# Altium footprint library Connectors.PcbLib: 62 footprints (part 1 of 4)
Each footprint in its own frame and in the unit in brackets; x right, y up, seen from the top. Pads: shape width x height; smd on the part's side, far side on the other; paste and mask are expansions set on the pad; w line width, h text height; cw(c..) or ccw(c..) is an arc to the next point about the centre after c.
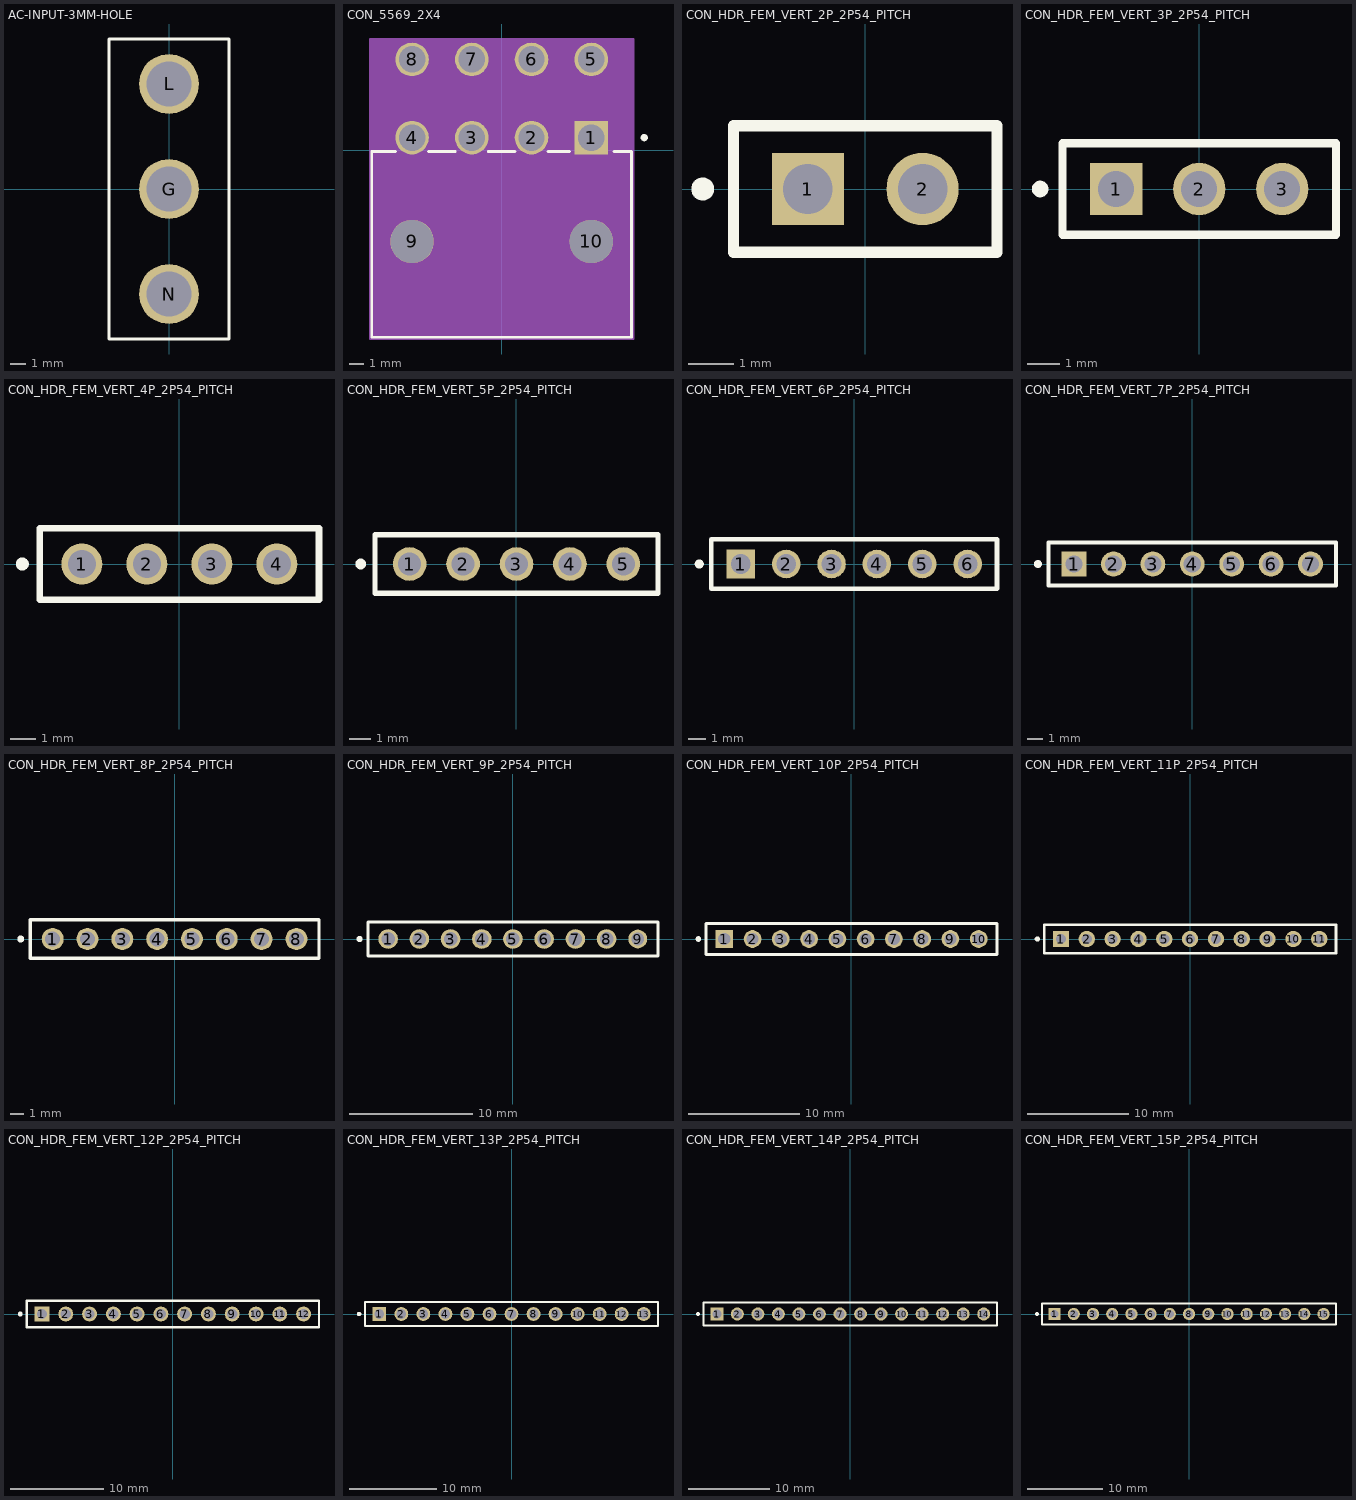
[diagram p0: the footprints below, top view; thin cyan lines are the x and y axes]

## AC-INPUT-3MM-HOLE [mm]
pads (3):
  round 4 hole 3: G(0,0) L(0,7) N(0,-7)
Top Overlay:
  lines w0.2: -4,-10 4,-10 4,10 -4,10 -4,-10
3D body "NADA.STEP": height 0.01, standoff 0, extent -0.005,-0.005 0.005,0.005

## CON_5569_2X4 [mil]
pads (10):
  rect 93x93 hole 73 paste-99999: 1(248.03,35.43)
  round 93 hole 73 paste-99999: 2(82.68,35.43) 3(-82.68,35.43) 4(-248.03,35.43) 5(248.03,251.97) 6(82.68,251.97) 7(-82.68,251.97) 8(-248.03,251.97)
  round 120 / inner round 60 / far side round 120 hole 120 unplated paste-99999 mask+0: 9(-248.03,-251.97) 10(248.03,-251.97)
Top Overlay:
  circle w10: c394.5,35.43 r5
  lines w7.87: -293.69,-2.87 -359.5,-2.87 -359.5,-516.87 359.5,-516.87 359.5,-2.87 311.02,-2.87 ; -202.37,-2.87 -128.34,-2.87 ; -37.02,-2.87 37.02,-2.87 ; 128.34,-2.87 187.39,-2.87
Mechanical 13:
  circle w20: c248.03,35.43 r15
  lines w1: -354.5,-511.87 354.5,-511.87 354.5,-7.87 -354.5,-7.87 -354.5,-511.87
  text "RefDes2" at -87.5,118.7 h50
Mechanical 15:
  region: 364.5,308.47 -364.5,308.47 -364.5,-521.87 364.5,-521.87
  lines w6: -364.5,-521.87 -364.5,308.47 364.5,308.47 364.5,-521.87 -364.5,-521.87
3D body "039301080.stp": height 448.82, standoff -141.73, extent -354.33,-511.81 369.96,273.03

## CON_HDR_FEM_VERT_2P_2P54_PITCH [mm]
pads (2):
  rect 1.6x1.6 hole 1.1: 1(-1.27,0)
  round 1.6 hole 1.1: 2(1.27,0)
Top Overlay:
  circle w0.254: c-3.598,0 r0.127
  lines w0.254: -2.917,-1.397 -2.917,1.397 2.917,1.397 2.917,-1.397 -2.917,-1.397
3D body "2-Pin Header - Female - 2.54mm.step": height 5, standoff -3, extent -2.79,-1.25 2.79,1.25

## CON_HDR_FEM_VERT_3P_2P54_PITCH [mm]
pads (3):
  rect 1.6x1.6 hole 1.1: 1(-2.54,0)
  round 1.6 hole 1.1: 2(0,0) 3(2.54,0)
Top Overlay:
  circle w0.254: c-4.868,0 r0.127
  lines w0.254: -4.187,-1.397 -4.187,1.397 4.187,1.397 4.187,-1.397 -4.187,-1.397
3D body "3-Pin Header - Female - 2.54mm.step": height 5, standoff -3, extent -4.06,-1.25 4.06,1.25

## CON_HDR_FEM_VERT_4P_2P54_PITCH [mm]
pads (4):
  round 1.6 hole 1.1: 1(-3.81,0) 2(-1.27,0) 3(1.27,0) 4(3.81,0)
Top Overlay:
  circle w0.254: c-6.138,0 r0.127
  lines w0.254: -5.457,-1.397 5.457,-1.397 5.457,1.397 -5.457,1.397 -5.457,-1.397
3D body "4-Pin Header - Female - 2.54mm.step": height 5, standoff -3, extent -5.33,-1.25 5.33,1.25

## CON_HDR_FEM_VERT_5P_2P54_PITCH [mm]
pads (5):
  round 1.6 hole 1.1: 1(-5.08,0) 2(-2.54,0) 3(0,0) 4(2.54,0) 5(5.08,0)
Top Overlay:
  circle w0.254: c-7.408,0 r0.127
  lines w0.254: -6.727,-1.397 -6.727,1.397 6.727,1.397 6.727,-1.397 -6.727,-1.397
3D body "5-Pin Header - Female - 2.54mm.step": height 5, standoff -3, extent -6.6,-1.25 6.6,1.25

## CON_HDR_FEM_VERT_6P_2P54_PITCH [mm]
pads (6):
  rect 1.6x1.6 hole 1.1: 1(-6.35,0)
  round 1.6 hole 1.1: 2(-3.81,0) 3(-1.27,0) 4(1.27,0) 5(3.81,0) 6(6.35,0)
Top Overlay:
  circle w0.254: c-8.678,0 r0.127
  lines w0.254: -7.997,-1.397 -7.997,1.397 7.997,1.397 7.997,-1.397 -7.997,-1.397
3D body "6-Pin Header - Female - 2.54mm.step": height 5, standoff -3, extent -7.87,-1.25 7.87,1.25

## CON_HDR_FEM_VERT_7P_2P54_PITCH [mm]
pads (7):
  rect 1.6x1.6 hole 1.1: 1(-7.62,0)
  round 1.6 hole 1.1: 2(-5.08,0) 3(-2.54,0) 4(0,0) 5(2.54,0) 6(5.08,0) 7(7.62,0)
Top Overlay:
  circle w0.254: c-9.948,0 r0.127
  lines w0.254: -9.267,-1.397 -9.267,1.397 9.267,1.397 9.267,-1.397 -9.267,-1.397
3D body "7-Pin Header - Female - 2.54mm.step": height 5, standoff -3, extent -9.14,-1.25 9.14,1.25

## CON_HDR_FEM_VERT_8P_2P54_PITCH [mm]
pads (8):
  round 1.6 hole 1.1: 1(-8.89,0) 2(-6.35,0) 3(-3.81,0) 4(-1.27,0) 5(1.27,0) 6(3.81,0) 7(6.35,0) 8(8.89,0)
Top Overlay:
  circle w0.254: c-11.218,0 r0.127
  lines w0.254: -10.537,-1.397 -10.537,1.397 10.537,1.397 10.537,-1.397 -10.537,-1.397
3D body "8-Pin Header - Female - 2.54mm.step": height 5, standoff -3, extent -10.41,-1.25 10.41,1.25

## CON_HDR_FEM_VERT_9P_2P54_PITCH [mm]
pads (9):
  round 1.6 hole 1.1: 1(-10.16,0) 2(-7.62,0) 3(-5.08,0) 4(-2.54,0) 5(0,0) 6(2.54,0) 7(5.08,0) 8(7.62,0)
  round 1.53 hole 1.02: 9(10.16,0)
Top Overlay:
  circle w0.254: c-12.488,0 r0.127
  lines w0.254: -11.807,-1.397 -11.807,1.397 11.807,1.397 11.807,-1.397 -11.807,-1.397
3D body "9-Pin Header - Female - 2.54mm.step": height 5, standoff -3, extent -11.68,-1.25 11.68,1.25

## CON_HDR_FEM_VERT_10P_2P54_PITCH [mm]
pads (10):
  rect 1.6x1.6 hole 1.1: 1(-11.43,0)
  round 1.6 hole 1.1: 2(-8.89,0) 3(-6.35,0) 4(-3.81,0) 5(-1.27,0) 6(1.27,0) 7(3.81,0) 8(6.35,0) 9(8.89,0) 10(11.43,0)
Top Overlay:
  circle w0.254: c-13.758,0 r0.127
  lines w0.254: -13.077,-1.397 13.077,-1.397 13.077,1.397 -13.077,1.397 -13.077,-1.397
3D body "10-Pin Header - Female - 2.54mm.step": height 5, standoff -3, extent -12.95,-1.25 12.95,1.25

## CON_HDR_FEM_VERT_11P_2P54_PITCH [mm]
pads (11):
  rect 1.6x1.6 hole 1: 1(-12.7,0)
  round 1.6 hole 1: 2(-10.16,0) 3(-7.62,0) 4(-5.08,0) 5(-2.54,0) 6(0,0) 7(2.54,0) 8(5.08,0) 9(7.62,0) 10(10.16,0) 11(12.7,0)
Top Overlay:
  circle w0.254: c-15.028,0 r0.127
  lines w0.254: -14.347,-1.397 -14.347,1.397 14.347,1.397 14.347,-1.397 -14.347,-1.397
3D body "11-Pin Header - Female - 2.54mm.step": height 5, standoff -3, extent -14.22,-1.25 14.22,1.25

## CON_HDR_FEM_VERT_12P_2P54_PITCH [mm]
pads (12):
  rect 1.6x1.6 hole 1.1: 1(-13.97,0)
  round 1.6 hole 1.1: 2(-11.43,0) 3(-8.89,0) 4(-6.35,0) 5(-3.81,0) 6(-1.27,0) 7(1.27,0) 8(3.81,0) 9(6.35,0) 10(8.89,0) 11(11.43,0) 12(13.97,0)
Top Overlay:
  circle w0.254: c-16.298,0 r0.127
  lines w0.254: -15.617,-1.397 15.617,-1.397 15.617,1.397 -15.617,1.397 -15.617,-1.397
3D body "12-Pin Header - Female - 2.54mm.step": height 5, standoff -3, extent -15.49,-1.25 15.49,1.25

## CON_HDR_FEM_VERT_13P_2P54_PITCH [mm]
pads (13):
  rect 1.6x1.6 hole 1.1: 1(-15.24,0)
  round 1.6 hole 1.1: 2(-12.7,0) 3(-10.16,0) 4(-7.62,0) 5(-5.08,0) 6(-2.54,0) 7(0,0) 8(2.54,0) 9(5.08,0) 10(7.62,0) 11(10.16,0) 12(12.7,0) 13(15.24,0)
Top Overlay:
  circle w0.254: c-17.568,0 r0.127
  lines w0.254: -16.887,-1.397 -16.887,1.397 16.887,1.397 16.887,-1.397 -16.887,-1.397
3D body "13-Pin Header - Female - 2.54mm.step": height 5, standoff -3, extent -16.76,-1.25 16.76,1.25

## CON_HDR_FEM_VERT_14P_2P54_PITCH [mm]
pads (14):
  rect 1.6x1.6 hole 1.1: 1(-16.51,0)
  round 1.6 hole 1.1: 2(-13.97,0) 3(-11.43,0) 4(-8.89,0) 5(-6.35,0) 6(-3.81,0) 7(-1.27,0) 8(1.27,0) 9(3.81,0) 10(6.35,0) 11(8.89,0) 12(11.43,0) 13(13.97,0) 14(16.51,0)
Top Overlay:
  circle w0.254: c-18.838,0 r0.127
  lines w0.254: -18.157,-1.397 -18.157,1.397 18.157,1.397 18.157,-1.397 -18.157,-1.397
3D body "14-Pin Header - Female - 2.54mm.step": height 5, standoff -3, extent -18.03,-1.25 18.03,1.25

## CON_HDR_FEM_VERT_15P_2P54_PITCH [mm]
pads (15):
  rect 1.6x1.6 hole 1.1: 1(-17.78,0)
  round 1.6 hole 1.1: 2(-15.24,0) 3(-12.7,0) 4(-10.16,0) 5(-7.62,0) 6(-5.08,0) 7(-2.54,0) 8(0,0) 9(2.54,0) 10(5.08,0) 11(7.62,0) 12(10.16,0) 13(12.7,0) 14(15.24,0) 15(17.78,0)
Top Overlay:
  circle w0.254: c-20.108,0 r0.127
  lines w0.254: -19.427,-1.397 19.427,-1.397 19.427,1.397 -19.427,1.397 -19.427,-1.397
3D body "15-Pin Header - Female - 2.54mm.step": height 5, standoff -3, extent -19.3,-1.25 19.3,1.25